# Altium footprint library General.PcbLib: 18 footprints (part 1 of 2)
Each footprint in its own frame and in the unit in brackets; x right, y up, seen from the top. Pads: shape width x height; smd on the part's side, far side on the other; paste and mask are expansions set on the pad; w line width, h text height; cw(c..) or ccw(c..) is an arc to the next point about the centre after c.
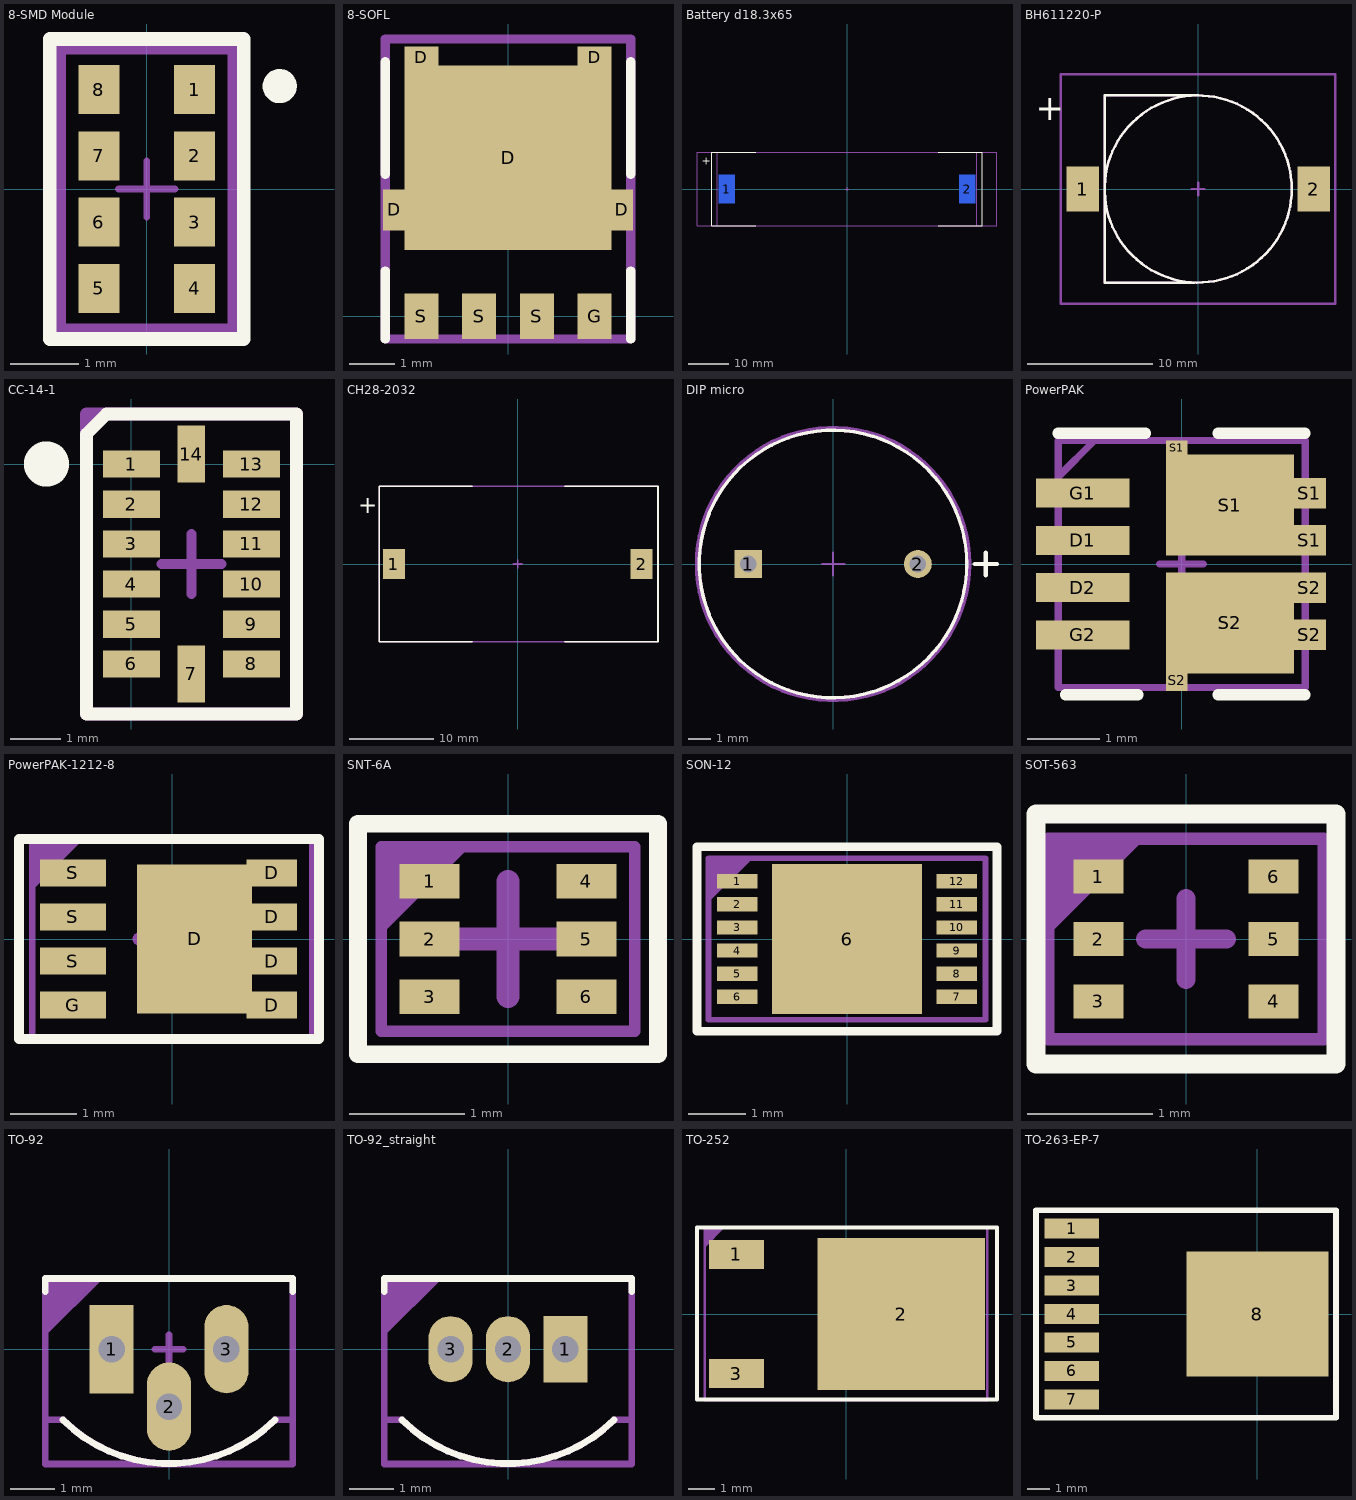
[diagram p0: the footprints below, top view; thin cyan lines are the x and y axes]

## 8-SMD Module [mm]
pads (8):
  rect 0.6x0.72 smd paste+0 mask+0: 1(0.7,1.455) 2(0.7,0.485) 3(0.7,-0.485) 4(0.7,-1.455) 5(-0.7,-1.455) 6(-0.7,-0.485) 7(-0.7,0.485) 8(-0.7,1.455)
Top Overlay:
  circle w0.25: c1.945,1.505 r0.125
  lines w0.2: -1.42,-2.195 -1.42,2.195 1.42,2.195 1.42,-2.195 -1.42,-2.195
Mechanical 1:
  lines w0.2: -1.28,-2.07 -1.28,2.07 1.28,2.07 1.28,-2.07 -1.28,-2.07
Top Assembly:
  lines w0.1: -1.38,-2.17 1.38,-2.17 1.38,2.17 -1.38,2.17 -1.38,-2.17
Top Courtyard:
  lines w0.1: -0.414,0 0.414,0 ; 0,-0.414 0,0.414 ; -1.38,-2.17 -1.38,2.17 1.38,2.17 1.38,-2.17 -1.38,-2.17
3D body "IC_Broadcom_APDS-9960_eec.STEP": height 1.35, standoff 0, extent -1.18,-1.97 1.18,1.97

## 8-SOFL [mm]
pads (9):
  rect 0.495x0.905 smd: D(-2.5,2.338) D(2.5,2.338)
  rect 0.75x0.475 smd: D(-1.905,5.7) D(1.905,5.7)
  rect 4.56x4.055 smd: D(0,3.49)
  rect 0.75x1 smd: G(1.905,0) S(-1.905,0) S(-0.635,0) S(0.635,0)
Top Overlay:
  lines w0.2: -2.7,-0.5 -2.7,1 ; -2.7,3.125 -2.7,5.6 ; 2.7,-0.5 2.7,1 ; 2.7,3.125 2.7,5.6
  text "." at -2.046,-1.346 h1.52
Top Assembly:
  lines w0.2: -2.7,-0.5 2.7,-0.5 2.7,6.1 -2.7,6.1 -2.7,-0.5
  text "'.Designator'" at -4.346,6.632 h0.8
Top Courtyard:
  lines w0.2: -0.6,2.9 0.4,2.9 ; -0.109,2.387 -0.109,3.387 ; -2.7,-0.5 2.7,-0.5 2.7,6.1 -2.7,6.1 -2.7,-0.5
3D body "User Library-DFN5x6_SO8FL.STEP": height 1.13, standoff 0, extent -2.575,-0.3 2.575,5.85

## Battery d18.3x65 [mm]
pads (2):
  rect 4x7 smd far side: 1(-30.1,0) 2(30.1,0)
Top Overlay:
  lines w0.2: -22.8,-9.2 -33.8,-9.2 -33.8,9.2 -22.8,9.2 ; 22.8,-9.2 33.8,-9.2 33.8,9.2 22.8,9.2
  text "+" at -36.3,6 h2
Mechanical 1:
  lines w0.2: -32.5,-9.2 -32.5,9.2 32.5,9.2 32.5,-9.2 -32.5,-9.2
  text "+" at -36.3,6 h2
  text ".Designator" at -4.8,-0.4 h1
Top Courtyard:
  lines w0.2: -0.5,0 0.5,0 ; 0,-0.5 0,0.5 ; -37.5,-9.2 37.5,-9.2 37.5,9.2 -37.5,9.2 -37.5,-9.2
3D body "Bat_18650.STEP": height 18.6, standoff 0, extent -32.7,-9.268 32.7,9.268

## BH611220-P [mm]
pads (2):
  rect 2.6x3.6 smd: 1(-9.25,0) 2(9.25,0)
Top Overlay:
  circle w0.2: c0,0 r7.5
  lines w0.2: -0.3,-7.5 -7.5,-7.5 -7.5,7.5 0,7.5
  text "+" at -13,5.5 h2
Top Assembly:
  circle w0.2: c0,0 r7.5
  lines w0.2: -0.3,-7.5 -7.5,-7.5 -7.5,7.5 0,7.5
  text "+" at -9.7,-1 h2
  text ".Designator" at -4.8,-0.4 h1
Top Courtyard:
  lines w0.2: -0.5,0 0.5,0 ; 0,-0.5 0,0.5 ; -11,-9.2 -11,9.2 11,9.2 11,-9.2 -11,-9.2
3D body "User Library-Battery Holder for CR1220 SMD.step": height 4.28, standoff -0.47, extent -9.6,-7.349 9.2,7.4

## CC-14-1 [mm]
pads (14):
  rect 1.145x0.55 smd: 1(0,0) 2(0,-0.8) 3(0,-1.6) 4(0,-2.4) 5(0,-3.2) 6(0,-4) 8(2.4,-4) 9(2.4,-3.2) 10(2.4,-2.4) 11(2.4,-1.6) 12(2.4,-0.8) 13(2.4,0)
  rect 0.55x1.145 smd: 7(1.2,-4.2) 14(1.2,0.2)
Top Overlay:
  circle w0.7: c-1.7,0 r0.1
  lines w0.254: -0.9,-5 -0.9,0.6 -0.5,1 3.3,1 3.3,-5 -0.9,-5
Top Assembly:
  lines w0.254: -0.9,-5 -0.9,1 3.3,1 3.3,-5 -0.9,-5
Top Courtyard:
  lines w0.1: -0.9,-5 -0.9,1 3.3,1 3.3,-5 -0.9,-5
  lines w0.2: 0.6,-2 1.8,-2 ; 1.2,-2.6 1.2,-1.4
3D body "User Library-ADXL345.STEP": height 1, standoff 0, extent -0.3,-4.5 2.7,0.5

## CH28-2032 [mm]
pads (2):
  rect 2.6x3.6 smd: 1(-14.65,0) 2(14.65,0)
Top Overlay:
  lines w0.2: -5.4,-9.2 -16.4,-9.2 -16.4,9.2 -5.4,9.2 ; 5.6,-9.2 16.6,-9.2 16.6,9.2 5.6,9.2
  text "+" at -18.9,6 h2
Mechanical 1:
  text "+" at -36.3,6 h2
Top Assembly:
  lines w0.2: -16.4,-9.2 16.6,-9.2 16.6,9.2 -16.4,9.2 -16.4,-9.2
  text ".Designator" at -4.8,-0.4 h1
Top Courtyard:
  lines w0.2: -0.5,0 0.5,0 ; 0,-0.5 0,0.5 ; -16.4,-9.2 -16.4,9.2 16.6,9.2 16.6,-9.2 -16.4,-9.2
3D body "BU2032SM-HD-G.stp": height 5.3, standoff 0, extent -16,-10 16,10

## DIP micro [mm]
pads (2):
  rect 1.25x1.25 hole 0.75 paste-2539.97 mask+0: 1(-3.8,0)
  round 1.25 hole 0.75 paste-2539.97 mask+0: 2(3.8,0)
Top Overlay:
  circle w0.15: c0,0 r6
  lines w0.2: 6.35,0 7.35,0 ; 6.85,-0.5 6.85,0.5
Top Assembly:
  lines w0.2: -6.1,0 cw(c0,0) 6.1,0 cw(c0,0) -6.1,0
Mechanical 13:
  circle w0.15: c0,0 r6
Mechanical 16:
  lines w0.1: -0.5,0 0.5,0 ; 0,-0.5 0,0.5
3D body "Speak_Multicomp_Pro_MCKPX-G1203A-K4056_eec.STEP": height 9.5, standoff -4, extent -6,-5.999 6.385,5.999

## PowerPAK [mm]
pads (12):
  rect 1.29x0.4 smd: D1(-1.36,0.325) D2(-1.36,-0.325) G1(-1.36,0.975) G2(-1.36,-0.975)
  rect 0.3x0.2 smd: S1(-0.066,1.6)
  rect 1.76x1.39 smd: S1(0.664,0.81) S2(0.664,-0.81)
  rect 0.45x0.42 smd: S1(1.76,0.325) S1(1.76,0.975) S2(1.76,-0.975) S2(1.76,-0.325)
  rect 0.3x0.3 smd: S2(-0.066,-1.6)
Top Overlay:
  lines w0.153: -1.7,1.8 -0.5,1.8 ; -1.6,-1.8 -0.6,-1.8 ; 0.5,-1.8 1.7,-1.8 ; 0.5,1.8 1.7,1.8
  text "." at -2.247,1.753 h0.8
Top Solder:
  rectangle: -0.325,-1.3 2.125,1.3
Top Assembly:
  lines w0.1: -1.7,1.2 -1.2,1.7 ; -1.7,-1.7 -1.7,1.7 1.7,1.7 1.7,-1.7 -1.7,-1.7
  text "'.Designator'" at -3.472,2.42 h0.8
Top Courtyard:
  lines w0.1: -0.3,0 0,0 ; 0,-0.3 0,0 ; 0,0.3 0,0 ; 0.3,0 0,0 ; -1.7,-1.7 -1.7,1.7 1.7,1.7 1.7,-1.7 -1.7,-1.7
3D body "User Library-PowerPAK 1212-8S.STEP": height 0.8, standoff 0, extent -1.7,-1.7 1.7,1.7

## PowerPAK-1212-8 [mm]
pads (9):
  rect 1.725x2.235 smd: D(0.335,0)
  rect 0.76x0.405 smd: D(1.493,-0.99) D(1.493,-0.33) D(1.493,0.33) D(1.493,0.99)
  rect 0.99x0.405 smd: G(-1.492,-0.99) S(-1.492,-0.33) S(-1.492,0.33) S(-1.492,0.99)
Top Overlay:
  lines w0.153: -2.3,-1.5 2.2,-1.5 2.2,1.5 -2.3,1.5 -2.3,-1.5
  text "." at -3.246,1.454 h1.52
Top Assembly:
  region: -2.1,1.5 -1.4,1.5 -2.1,0.8
  lines w0.1: -2.1,0.8 -1.4,1.5 ; -2.1,-1.5 2.1,-1.5 2.1,1.5 -2.1,1.5 -2.1,-1.5
  text "'.Designator'" at -2.147,1.92 h0.8
Top Courtyard:
  lines w0.1: -2.1,0.8 -1.4,1.5 ; -2.1,-1.5 2.1,-1.5 2.1,1.5 -2.1,1.5 -2.1,-1.5
  lines w0.2: -0.5,0 0.5,0 ; 0,-0.5 0,0.5
3D body "POWERPAK 1212-8SWLH.STEP": height 1.04, standoff 0, extent -1.65,-1.525 1.65,1.525

## SNT-6A [mm]
pads (6):
  rect 0.52x0.3 smd: 1(-0.68,0.5) 2(-0.68,0) 3(-0.68,-0.5) 4(0.68,0.5) 5(0.68,0) 6(0.68,-0.5)
Top Overlay:
  lines w0.153: -1.3,-1 -1.3,1 1.3,1 1.3,-1 -1.3,-1
  text "." at -1.647,0.753 h0.8
Top Assembly:
  region: -1.1,0.8 -0.4,0.8 -1.1,0.1
  lines w0.1: -1.1,0.1 -0.4,0.8 ; -1.1,-0.8 1.1,-0.8 1.1,0.8 -1.1,0.8 -1.1,-0.8
  text "'.Designator'" at -1.547,1.445 h0.8
Top Courtyard:
  lines w0.1: -1.1,0.1 -0.4,0.8 ; -1.1,-0.8 -1.1,0.8 1.1,0.8 1.1,-0.8 -1.1,-0.8
  lines w0.2: -0.5,0 0.5,0 ; 0,-0.5 0,0.5
3D body "User Library-VMT6.STEP": height 0.53, standoff -0.02, extent -0.6,-0.6 0.6,0.6

## SON-12 [mm]
pads (13):
  rect 0.7x0.25 smd: 1(-1.9,1) 2(-1.9,0.6) 3(-1.9,0.2) 4(-1.9,-0.2) 5(-1.9,-0.6) 6(-1.9,-1) 7(1.9,-1) 8(1.9,-0.6) 9(1.9,-0.2) 10(1.9,0.2) 11(1.9,0.6) 12(1.9,1)
  rect 2.6x2.6 smd: 6(0,0)
Top Overlay:
  lines w0.153: -2.6,-1.6 -2.6,1.6 2.6,1.6 2.6,-1.6 -2.6,-1.6
  text "." at -3.147,1.453 h0.8
Top Assembly:
  region: -2.4,1.4 -1.7,1.4 -2.4,0.7
  lines w0.1: -2.4,0.7 -1.7,1.4 ; -2.4,-1.4 2.4,-1.4 2.4,1.4 -2.4,1.4 -2.4,-1.4
  text "'.Designator'" at -2.347,1.92 h0.8
Top Courtyard:
  lines w0.1: -2.4,0.7 -1.7,1.4 ; -2.4,-1.4 2.4,-1.4 2.4,1.4 -2.4,1.4 -2.4,-1.4
  lines w0.153: -0.325,0 0.325,0 ; 0,-0.325 0,0.325
3D body "SON-12-2.step": height 1, standoff -0.05, extent -2.075,-1.3 2.075,1.3

## SOT-563 [mm]
pads (6):
  rect 0.4x0.27 smd: 1(-0.7,0.5) 2(-0.7,0) 3(-0.7,-0.5) 4(0.7,-0.5) 5(0.7,0) 6(0.7,0.5)
Top Overlay:
  lines w0.153: -1.2,-1 1.2,-1 1.2,1 -1.2,1 -1.2,-1
  text "." at -1.647,1.053 h0.8
Top Assembly:
  region: -1.1,0.8 -0.4,0.8 -1.1,0.1
  lines w0.1: -1.1,0.1 -0.4,0.8 ; -1.1,-0.8 -1.1,0.8 1.1,0.8 1.1,-0.8 -1.1,-0.8
  text "'.Designator'" at -1.647,1.495 h0.8
Top Courtyard:
  lines w0.153: -0.325,0 0.325,0 ; 0,-0.325 0,0.325
3D body "User Library-SOT-563_TI.STEP": height 0.58, standoff -0.01, extent -0.813,-0.8 0.813,0.8

## TO-92 [mm]
pads (3):
  rect 1x2 hole 0.6: 1(-1.3,0)
  oval 1x2 hole 0.6: 2(0,-1.3) 3(1.3,0)
Top Overlay:
  lines w0.153: -2.8,1.3 -2.8,1.6 2.8,1.6 2.8,1.3 ; -2.4,-1.6 ccw(c0,0.8) 2.4,-1.6
Top Assembly:
  region: -2.8,1.6 -2.8,0.3 -1.5,1.6
  lines w0.153: -2.8,-1.6 -2.8,1.6 2.8,1.6 2.8,-1.6 2.4,-1.6 cw(c0,0.8) -2.4,-1.6 -2.8,-1.6
  text "'.Designator'" at -4.532,-0.333 h0.8
Top Courtyard:
  lines w0.153: -0.325,0 0.325,0 ; 0,-0.325 0,0.325 ; -2.8,-2.6 -2.8,1.6 2.8,1.6 2.8,-2.6 -2.8,-2.6
3D body "User Library-TO-92_CF127.step": height 8.5, standoff -4, extent -2.491,-1.47 2.491,2.5

## TO-92_straight [mm]
pads (3):
  rect 1x1.5 hole 0.6: 1(1.3,0)
  oval 1x1.5 hole 0.6: 2(0,0) 3(-1.3,0)
Top Overlay:
  lines w0.153: -2.8,1.3 -2.8,1.6 2.8,1.6 2.8,1.3 ; -2.4,-1.6 ccw(c0,0.8) 2.4,-1.6
Top Assembly:
  region: -2.8,1.6 -2.8,0.3 -1.5,1.6
  lines w0.153: -2.8,-1.6 -2.8,1.6 2.8,1.6 2.8,-1.6 2.4,-1.6 cw(c0,0.8) -2.4,-1.6 -2.8,-1.6
  text "'.Designator'" at -4.532,-0.333 h0.8
Top Courtyard:
  lines w0.153: -0.3,0 0.3,0 ; 0,-0.3 0,0.3 ; -2.8,-2.6 -2.8,1.6 2.8,1.6 2.8,-2.6 -2.8,-2.6
3D body "ALSRobot-TO-92A.STEP": height 8, standoff -3, extent -2.4,-2.43 2.4,1.5

## TO-252 [mm]
pads (3):
  rect 2.1x1.1 smd: 1(-4.19,2.28) 3(-4.19,-2.28)
  rect 6.4x5.8 smd: 2(2.11,0)
Top Overlay:
  lines w0.153: -5.7,-3.275 -5.7,3.3 5.775,3.3 5.775,-3.275 -5.7,-3.275
  text "." at -6.247,3.153 h0.8
Top Assembly:
  region: -5.4,3.3 -4.7,3.3 -5.4,2.6
  lines w0.1: -5.4,2.6 -4.7,3.3 ; -5.4,-3.3 -5.4,3.3 5.4,3.3 5.4,-3.3 -5.4,-3.3
  text "'.Designator'" at -4.747,3.895 h0.8
Top Courtyard:
  lines w0.1: -5.4,2.6 -4.7,3.3 ; -5.4,-3.3 -5.4,3.3 5.4,3.3 5.4,-3.3 -5.4,-3.3
  lines w0.153: -0.325,0 0.325,0 ; 0,-0.325 0,0.325
3D body "TO-252.step": height 2.3, standoff 0, extent -4.848,-3.29 4.852,3.29

## TO-263-EP-7 [mm]
pads (8):
  rect 2.41x0.91 smd: 1(-8.28,3.81) 2(-8.28,2.54) 3(-8.28,1.27) 4(-8.28,0) 5(-8.28,-1.27) 6(-8.28,-2.54) 7(-8.28,-3.81)
  rect 6.35x5.59 smd: 8(0,0)
Top Overlay:
  lines w0.254: -9.875,-4.625 3.5,-4.625 3.5,4.625 -9.875,4.625 -9.875,-4.625